# Altium footprint library PCB - CAPACITOR - MLCC - MURATA GJM155 0402_1005.PCBLIB: 1 footprints
Each footprint in its own frame and in the unit in brackets; x right, y up, seen from the top. Pads: shape width x height; smd on the part's side, far side on the other; paste and mask are expansions set on the pad; w line width, h text height; cw(c..) or ccw(c..) is an arc to the next point about the centre after c.
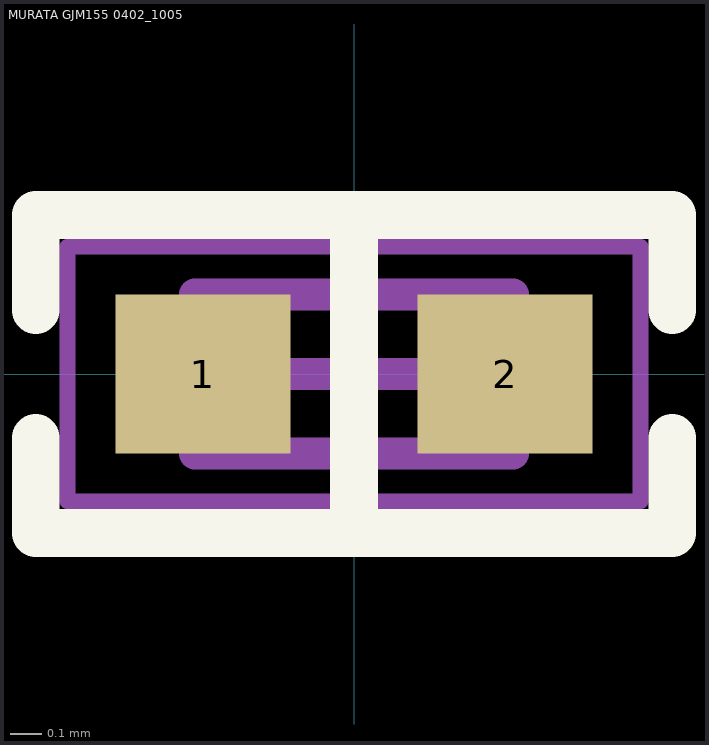
[diagram p0: the footprint, top view; thin cyan lines are the x and y axes]

## MURATA GJM155 0402_1005 [mm] "Chip Capacitor, 2-Leads, Body 1.0x0.50mm"
height 0.55
pads (2):
  rect 0.55x0.5 smd: 1(-0.475,0) 2(0.475,0)
Top Overlay:
  lines w0.15: -1,-0.2 -1,-0.5 1,-0.5 1,-0.2 ; -1,0.2 -1,0.5 1,0.5 1,0.2 ; 0,-0.5 0,0.5
Mechanical 13:
  lines w0.1: -0.5,-0.25 -0.5,0.25 0.5,0.25 0.5,-0.25 -0.5,-0.25
Mechanical 15:
  lines w0.05: -0.9,-0.4 -0.9,0.4 0.9,0.4 0.9,-0.4 -0.9,-0.4
  lines w0.1: -0.475,0 0.475,0 ; 0,-0.25 0,0.25
3D body "Murata - GJM155.step": height 0.55, standoff 0, extent -0.525,-0.275 0.525,0.275